# Altium integrated library Cypress PLD Ultra37000.IntLib: 166 symbols (part 2 of 12)
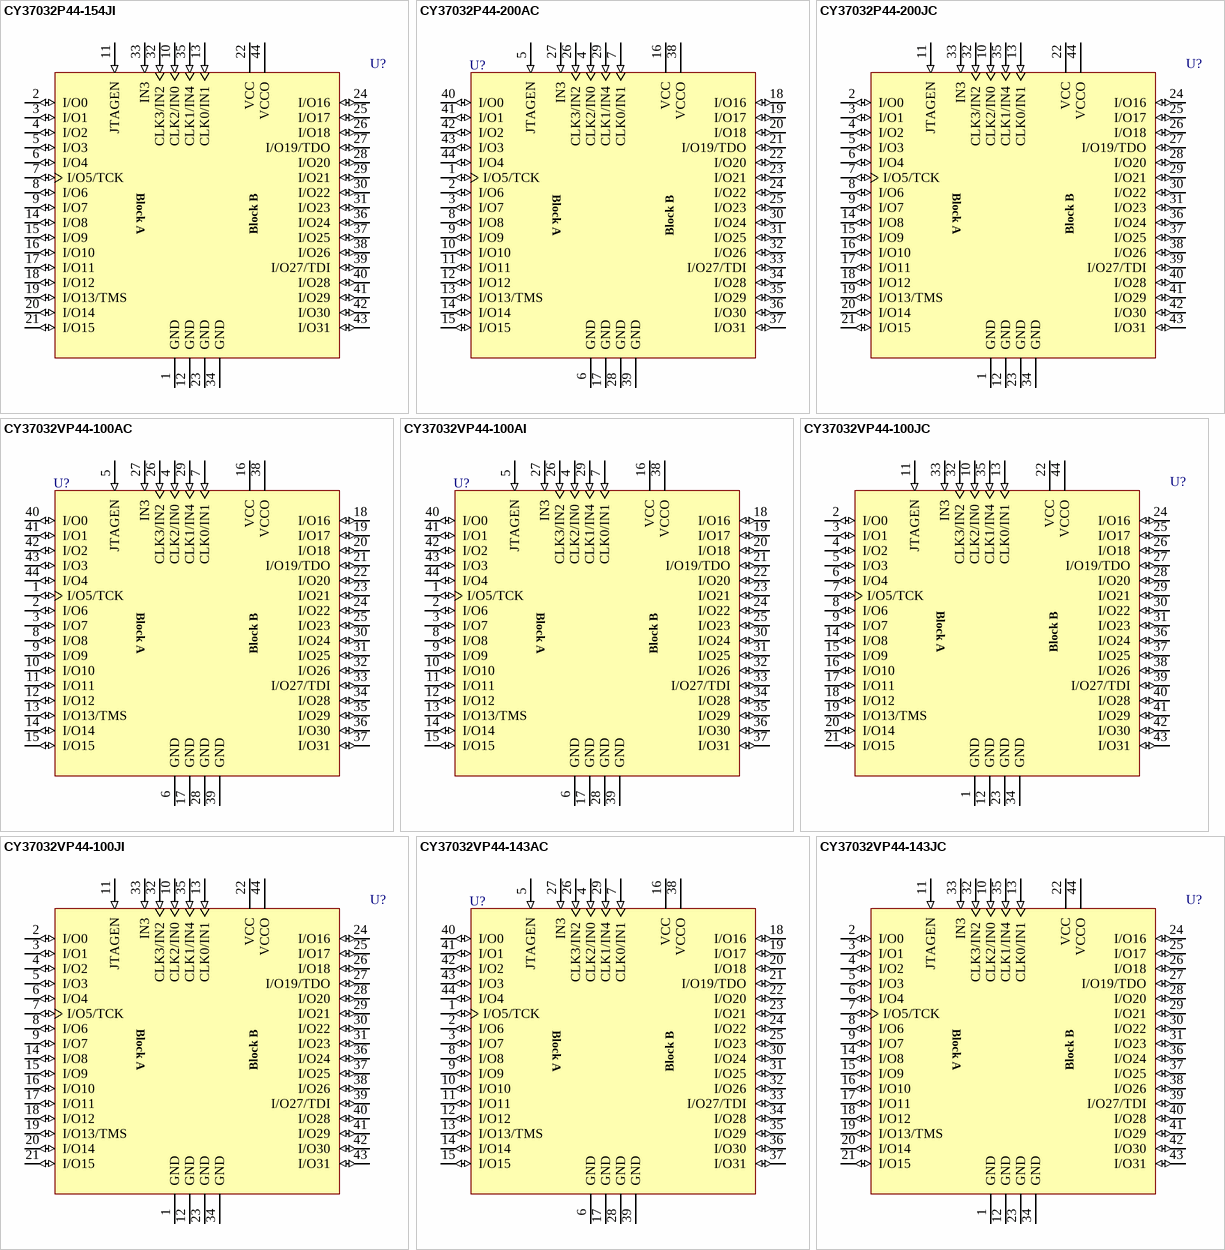
[diagram p91: symbols CY37032P44-154JI to CY37032VP44-143JC]

## CY37032P44-154JI
designator U?
Ultra37000 5V, ISR High-Performance CPLD; Published: 11-Dec-2002; LatestRevisionDate: 13-Apr-2006; LatestRevisionNote: IPC-7351 Footprint Added.; DatasheetVersion: 18-Apr-2001; PackageVersion: Mar-2001; PackageReference: J67; Publisher: Altium Limited; PackageDescription: 44-Pin Plastic Leaded Chip Carrier 1.27 mm Pitch; ComponentLink1Description: Manufacturer Link; ComponentLink1URL: http://www.cypress.com/; ComponentLink2Description: Datasheet; ComponentLink2URL: http://www.cypress.com/portal/server.pt/gateway/PTARGS_0_2_1524_209_259_43/http%3B/sjapp20.mis.cypress.com%3B7001/publishedcontent/publish/design_resources/datasheets/contents/cy37032p_5.pdf
footprint J67_N (Leaded Chip Carrier, 44-Leads, Body 16.6x16.6mm, Pitch 1.27mm, IPC Medium Density)
footprint J67_L (Leaded Chip Carrier, 44-Leads, Body 16.6x16.6mm, Pitch 1.27mm, IPC High Density)
footprint J67_M (Leaded Chip Carrier, 44-Leads, Body 16.6x16.6mm, Pitch 1.27mm, IPC Low Density)
3D model CY37032P44-J67 (44-Pin Plastic Leaded Chip Carrier 1.27 mm Pitch)
pins: 1 GND (power), 2 I/O0 (io), 3 I/O1 (io), 4 I/O2 (io), 5 I/O3 (io), 6 I/O4 (io), 7 I/O5/TCK (io), 8 I/O6 (io), 9 I/O7 (io), 10 CLK2/IN0 (in), 11 JTAGEN (in), 12 GND (power), 13 CLK0/IN1 (in), 14 I/O8 (io), 15 I/O9 (io), 16 I/O10 (io), 17 I/O11 (io), 18 I/O12 (io), 19 I/O13/TMS (io), 20 I/O14 (io), 21 I/O15 (io), 22 VCC (power), 23 GND (power), 24 I/O16 (io), 25 I/O17 (io), 26 I/O18 (io), 27 I/O19/TDO (io), 28 I/O20 (io), 29 I/O21 (io), 30 I/O22 (io), 31 I/O23 (io), 32 CLK3/IN2 (in), 33 IN3 (in), 34 GND (power), 35 CLK1/IN4 (in), 36 I/O24 (io), 37 I/O25 (io), 38 I/O26 (io), 39 I/O27/TDI (io), 40 I/O28 (io), 41 I/O29 (io), 42 I/O30 (io), 43 I/O31 (io), 44 VCCO (power)
text: Block A; Block B

## CY37032P44-200AC
designator U?
Ultra37000 5V, ISR High-Performance CPLD; Published: 11-Dec-2002; LatestRevisionDate: 13-Apr-2006; LatestRevisionNote: IPC-7351 Footprint Added.; DatasheetVersion: 18-Apr-2001; PackageVersion: Mar-2002; PackageReference: A44; Publisher: Altium Limited; PackageDescription: 44-Pin Thin Plastic Quad Flat Pack 0.8 mm Pitch; ComponentLink1Description: Manufacturer Link; ComponentLink1URL: http://www.cypress.com/; ComponentLink2Description: Datasheet; ComponentLink2URL: http://www.cypress.com/portal/server.pt/gateway/PTARGS_0_2_1524_209_259_43/http%3B/sjapp20.mis.cypress.com%3B7001/publishedcontent/publish/design_resources/datasheets/contents/cy37032p_5.pdf
footprint A44_N (Thin QFP, 44-Leads, Body 10x10mm, Pitch 0.8mm, IPC Medium Density)
footprint A44_L (Thin QFP, 44-Leads, Body 10x10mm, Pitch 0.8mm, IPC High Density)
footprint A44_M (Thin QFP, 44-Leads, Body 10x10mm, Pitch 0.8mm, IPC Low Density)
3D model CY37032P44-A44 (44-Pin Thin Plastic Quad Flat Pack 0.8 mm Pitch)
pins: 1 I/O5/TCK (io), 2 I/O6 (io), 3 I/O7 (io), 4 CLK2/IN0 (in), 5 JTAGEN (in), 6 GND (power), 7 CLK0/IN1 (in), 8 I/O8 (io), 9 I/O9 (io), 10 I/O10 (io), 11 I/O11 (io), 12 I/O12 (io), 13 I/O13/TMS (io), 14 I/O14 (io), 15 I/O15 (io), 16 VCC (power), 17 GND (power), 18 I/O16 (io), 19 I/O17 (io), 20 I/O18 (io), 21 I/O19/TDO (io), 22 I/O20 (io), 23 I/O21 (io), 24 I/O22 (io), 25 I/O23 (io), 26 CLK3/IN2 (in), 27 IN3 (in), 28 GND (power), 29 CLK1/IN4 (in), 30 I/O24 (io), 31 I/O25 (io), 32 I/O26 (io), 33 I/O27/TDI (io), 34 I/O28 (io), 35 I/O29 (io), 36 I/O30 (io), 37 I/O31 (io), 38 VCCO (power), 39 GND (power), 40 I/O0 (io), 41 I/O1 (io), 42 I/O2 (io), 43 I/O3 (io), 44 I/O4 (io)
text: Block A; Block B

## CY37032P44-200JC
designator U?
Ultra37000 5V, ISR High-Performance CPLD; Published: 11-Dec-2002; LatestRevisionDate: 13-Apr-2006; LatestRevisionNote: IPC-7351 Footprint Added.; DatasheetVersion: 18-Apr-2001; PackageVersion: Mar-2001; PackageReference: J67; Publisher: Altium Limited; PackageDescription: 44-Pin Plastic Leaded Chip Carrier 1.27 mm Pitch; ComponentLink1Description: Manufacturer Link; ComponentLink1URL: http://www.cypress.com/; ComponentLink2Description: Datasheet; ComponentLink2URL: http://www.cypress.com/portal/server.pt/gateway/PTARGS_0_2_1524_209_259_43/http%3B/sjapp20.mis.cypress.com%3B7001/publishedcontent/publish/design_resources/datasheets/contents/cy37032p_5.pdf
footprint J67_N (Leaded Chip Carrier, 44-Leads, Body 16.6x16.6mm, Pitch 1.27mm, IPC Medium Density)
footprint J67_L (Leaded Chip Carrier, 44-Leads, Body 16.6x16.6mm, Pitch 1.27mm, IPC High Density)
footprint J67_M (Leaded Chip Carrier, 44-Leads, Body 16.6x16.6mm, Pitch 1.27mm, IPC Low Density)
3D model CY37032P44-J67 (44-Pin Plastic Leaded Chip Carrier 1.27 mm Pitch)
pins: 1 GND (power), 2 I/O0 (io), 3 I/O1 (io), 4 I/O2 (io), 5 I/O3 (io), 6 I/O4 (io), 7 I/O5/TCK (io), 8 I/O6 (io), 9 I/O7 (io), 10 CLK2/IN0 (in), 11 JTAGEN (in), 12 GND (power), 13 CLK0/IN1 (in), 14 I/O8 (io), 15 I/O9 (io), 16 I/O10 (io), 17 I/O11 (io), 18 I/O12 (io), 19 I/O13/TMS (io), 20 I/O14 (io), 21 I/O15 (io), 22 VCC (power), 23 GND (power), 24 I/O16 (io), 25 I/O17 (io), 26 I/O18 (io), 27 I/O19/TDO (io), 28 I/O20 (io), 29 I/O21 (io), 30 I/O22 (io), 31 I/O23 (io), 32 CLK3/IN2 (in), 33 IN3 (in), 34 GND (power), 35 CLK1/IN4 (in), 36 I/O24 (io), 37 I/O25 (io), 38 I/O26 (io), 39 I/O27/TDI (io), 40 I/O28 (io), 41 I/O29 (io), 42 I/O30 (io), 43 I/O31 (io), 44 VCCO (power)
text: Block A; Block B

## CY37032VP44-100AC
designator U?
Ultra37000 3.3V, ISR High-Performance CPLD; Published: 11-Dec-2002; LatestRevisionDate: 13-Apr-2006; LatestRevisionNote: IPC-7351 Footprint Added.; DatasheetVersion: 18-Apr-2001; PackageVersion: Mar-2002; PackageReference: A44; Publisher: Altium Limited; PackageDescription: 44-Pin Thin Plastic Quad Flat Pack 0.8 mm Pitch; ComponentLink1Description: Manufacturer Link; ComponentLink1URL: http://www.cypress.com/; ComponentLink2Description: Datasheet; ComponentLink2URL: http://www.cypress.com/portal/server.pt/gateway/PTARGS_0_2_1524_209_259_43/http%3B/sjapp20.mis.cypress.com%3B7001/publishedcontent/publish/design_resources/datasheets/contents/cy37032p_5.pdf
footprint A44_N (Thin QFP, 44-Leads, Body 10x10mm, Pitch 0.8mm, IPC Medium Density)
footprint A44_L (Thin QFP, 44-Leads, Body 10x10mm, Pitch 0.8mm, IPC High Density)
footprint A44_M (Thin QFP, 44-Leads, Body 10x10mm, Pitch 0.8mm, IPC Low Density)
3D model CY37032VP44-A44 (44-Pin Thin Plastic Quad Flat Pack 0.8 mm Pitch)
pins: 1 I/O5/TCK (io), 2 I/O6 (io), 3 I/O7 (io), 4 CLK2/IN0 (in), 5 JTAGEN (in), 6 GND (power), 7 CLK0/IN1 (in), 8 I/O8 (io), 9 I/O9 (io), 10 I/O10 (io), 11 I/O11 (io), 12 I/O12 (io), 13 I/O13/TMS (io), 14 I/O14 (io), 15 I/O15 (io), 16 VCC (power), 17 GND (power), 18 I/O16 (io), 19 I/O17 (io), 20 I/O18 (io), 21 I/O19/TDO (io), 22 I/O20 (io), 23 I/O21 (io), 24 I/O22 (io), 25 I/O23 (io), 26 CLK3/IN2 (in), 27 IN3 (in), 28 GND (power), 29 CLK1/IN4 (in), 30 I/O24 (io), 31 I/O25 (io), 32 I/O26 (io), 33 I/O27/TDI (io), 34 I/O28 (io), 35 I/O29 (io), 36 I/O30 (io), 37 I/O31 (io), 38 VCCO (power), 39 GND (power), 40 I/O0 (io), 41 I/O1 (io), 42 I/O2 (io), 43 I/O3 (io), 44 I/O4 (io)
text: Block A; Block B

## CY37032VP44-100AI
designator U?
Ultra37000 3.3V, ISR High-Performance CPLD; Published: 11-Dec-2002; LatestRevisionDate: 13-Apr-2006; LatestRevisionNote: IPC-7351 Footprint Added.; DatasheetVersion: 18-Apr-2001; PackageVersion: Mar-2002; PackageReference: A44; Publisher: Altium Limited; PackageDescription: 44-Pin Thin Plastic Quad Flat Pack 0.8 mm Pitch; ComponentLink1Description: Manufacturer Link; ComponentLink1URL: http://www.cypress.com/; ComponentLink2Description: Datasheet; ComponentLink2URL: http://www.cypress.com/portal/server.pt/gateway/PTARGS_0_2_1524_209_259_43/http%3B/sjapp20.mis.cypress.com%3B7001/publishedcontent/publish/design_resources/datasheets/contents/cy37032p_5.pdf
footprint A44_N (Thin QFP, 44-Leads, Body 10x10mm, Pitch 0.8mm, IPC Medium Density)
footprint A44_L (Thin QFP, 44-Leads, Body 10x10mm, Pitch 0.8mm, IPC High Density)
footprint A44_M (Thin QFP, 44-Leads, Body 10x10mm, Pitch 0.8mm, IPC Low Density)
3D model CY37032VP44-A44 (44-Pin Thin Plastic Quad Flat Pack 0.8 mm Pitch)
pins: 1 I/O5/TCK (io), 2 I/O6 (io), 3 I/O7 (io), 4 CLK2/IN0 (in), 5 JTAGEN (in), 6 GND (power), 7 CLK0/IN1 (in), 8 I/O8 (io), 9 I/O9 (io), 10 I/O10 (io), 11 I/O11 (io), 12 I/O12 (io), 13 I/O13/TMS (io), 14 I/O14 (io), 15 I/O15 (io), 16 VCC (power), 17 GND (power), 18 I/O16 (io), 19 I/O17 (io), 20 I/O18 (io), 21 I/O19/TDO (io), 22 I/O20 (io), 23 I/O21 (io), 24 I/O22 (io), 25 I/O23 (io), 26 CLK3/IN2 (in), 27 IN3 (in), 28 GND (power), 29 CLK1/IN4 (in), 30 I/O24 (io), 31 I/O25 (io), 32 I/O26 (io), 33 I/O27/TDI (io), 34 I/O28 (io), 35 I/O29 (io), 36 I/O30 (io), 37 I/O31 (io), 38 VCCO (power), 39 GND (power), 40 I/O0 (io), 41 I/O1 (io), 42 I/O2 (io), 43 I/O3 (io), 44 I/O4 (io)
text: Block A; Block B

## CY37032VP44-100JC
designator U?
Ultra37000 3.3V, ISR High-Performance CPLD; ComponentAvailability: Obsolete; Published: 11-Dec-2002; LatestRevisionDate: 13-Apr-2006; LatestRevisionNote: IPC-7351 Footprint Added.; DatasheetVersion: 18-Apr-2001; PackageVersion: Mar-2001; PackageReference: J67; Publisher: Altium Limited; PackageDescription: 44-Pin Plastic Leaded Chip Carrier 1.27 mm Pitch; ComponentLink1Description: Manufacturer Link; ComponentLink1URL: http://www.cypress.com/; ComponentLink2Description: Datasheet; ComponentLink2URL: http://www.cypress.com/portal/server.pt/gateway/PTARGS_0_2_1524_209_259_43/http%3B/sjapp20.mis.cypress.com%3B7001/publishedcontent/publish/design_resources/datasheets/contents/cy37032p_5.pdf
footprint J67_N (Leaded Chip Carrier, 44-Leads, Body 16.6x16.6mm, Pitch 1.27mm, IPC Medium Density)
footprint J67_L (Leaded Chip Carrier, 44-Leads, Body 16.6x16.6mm, Pitch 1.27mm, IPC High Density)
footprint J67_M (Leaded Chip Carrier, 44-Leads, Body 16.6x16.6mm, Pitch 1.27mm, IPC Low Density)
3D model CY37032VP44-J67 (44-Pin Plastic Leaded Chip Carrier 1.27 mm Pitch)
pins: 1 GND (power), 2 I/O0 (io), 3 I/O1 (io), 4 I/O2 (io), 5 I/O3 (io), 6 I/O4 (io), 7 I/O5/TCK (io), 8 I/O6 (io), 9 I/O7 (io), 10 CLK2/IN0 (in), 11 JTAGEN (in), 12 GND (power), 13 CLK0/IN1 (in), 14 I/O8 (io), 15 I/O9 (io), 16 I/O10 (io), 17 I/O11 (io), 18 I/O12 (io), 19 I/O13/TMS (io), 20 I/O14 (io), 21 I/O15 (io), 22 VCC (power), 23 GND (power), 24 I/O16 (io), 25 I/O17 (io), 26 I/O18 (io), 27 I/O19/TDO (io), 28 I/O20 (io), 29 I/O21 (io), 30 I/O22 (io), 31 I/O23 (io), 32 CLK3/IN2 (in), 33 IN3 (in), 34 GND (power), 35 CLK1/IN4 (in), 36 I/O24 (io), 37 I/O25 (io), 38 I/O26 (io), 39 I/O27/TDI (io), 40 I/O28 (io), 41 I/O29 (io), 42 I/O30 (io), 43 I/O31 (io), 44 VCCO (power)
text: Block A; Block B

## CY37032VP44-100JI
designator U?
Ultra37000 3.3V, ISR High-Performance CPLD; ComponentAvailability: Obsolete; Published: 11-Dec-2002; LatestRevisionDate: 13-Apr-2006; LatestRevisionNote: IPC-7351 Footprint Added.; DatasheetVersion: 18-Apr-2001; PackageVersion: Mar-2001; PackageReference: J67; Publisher: Altium Limited; PackageDescription: 44-Pin Plastic Leaded Chip Carrier 1.27 mm Pitch; ComponentLink1Description: Manufacturer Link; ComponentLink1URL: http://www.cypress.com/; ComponentLink2Description: Datasheet; ComponentLink2URL: http://www.cypress.com/portal/server.pt/gateway/PTARGS_0_2_1524_209_259_43/http%3B/sjapp20.mis.cypress.com%3B7001/publishedcontent/publish/design_resources/datasheets/contents/cy37032p_5.pdf
footprint J67_N (Leaded Chip Carrier, 44-Leads, Body 16.6x16.6mm, Pitch 1.27mm, IPC Medium Density)
footprint J67_L (Leaded Chip Carrier, 44-Leads, Body 16.6x16.6mm, Pitch 1.27mm, IPC High Density)
footprint J67_M (Leaded Chip Carrier, 44-Leads, Body 16.6x16.6mm, Pitch 1.27mm, IPC Low Density)
3D model CY37032VP44-J67 (44-Pin Plastic Leaded Chip Carrier 1.27 mm Pitch)
pins: 1 GND (power), 2 I/O0 (io), 3 I/O1 (io), 4 I/O2 (io), 5 I/O3 (io), 6 I/O4 (io), 7 I/O5/TCK (io), 8 I/O6 (io), 9 I/O7 (io), 10 CLK2/IN0 (in), 11 JTAGEN (in), 12 GND (power), 13 CLK0/IN1 (in), 14 I/O8 (io), 15 I/O9 (io), 16 I/O10 (io), 17 I/O11 (io), 18 I/O12 (io), 19 I/O13/TMS (io), 20 I/O14 (io), 21 I/O15 (io), 22 VCC (power), 23 GND (power), 24 I/O16 (io), 25 I/O17 (io), 26 I/O18 (io), 27 I/O19/TDO (io), 28 I/O20 (io), 29 I/O21 (io), 30 I/O22 (io), 31 I/O23 (io), 32 CLK3/IN2 (in), 33 IN3 (in), 34 GND (power), 35 CLK1/IN4 (in), 36 I/O24 (io), 37 I/O25 (io), 38 I/O26 (io), 39 I/O27/TDI (io), 40 I/O28 (io), 41 I/O29 (io), 42 I/O30 (io), 43 I/O31 (io), 44 VCCO (power)
text: Block A; Block B

## CY37032VP44-143AC
designator U?
Ultra37000 3.3V, ISR High-Performance CPLD; Published: 11-Dec-2002; LatestRevisionDate: 13-Apr-2006; LatestRevisionNote: IPC-7351 Footprint Added.; DatasheetVersion: 18-Apr-2001; PackageVersion: Mar-2002; PackageReference: A44; Publisher: Altium Limited; PackageDescription: 44-Pin Thin Plastic Quad Flat Pack 0.8 mm Pitch; ComponentLink1Description: Manufacturer Link; ComponentLink1URL: http://www.cypress.com/; ComponentLink2Description: Datasheet; ComponentLink2URL: http://www.cypress.com/portal/server.pt/gateway/PTARGS_0_2_1524_209_259_43/http%3B/sjapp20.mis.cypress.com%3B7001/publishedcontent/publish/design_resources/datasheets/contents/cy37032p_5.pdf
footprint A44_N (Thin QFP, 44-Leads, Body 10x10mm, Pitch 0.8mm, IPC Medium Density)
footprint A44_L (Thin QFP, 44-Leads, Body 10x10mm, Pitch 0.8mm, IPC High Density)
footprint A44_M (Thin QFP, 44-Leads, Body 10x10mm, Pitch 0.8mm, IPC Low Density)
3D model CY37032VP44-A44 (44-Pin Thin Plastic Quad Flat Pack 0.8 mm Pitch)
pins: 1 I/O5/TCK (io), 2 I/O6 (io), 3 I/O7 (io), 4 CLK2/IN0 (in), 5 JTAGEN (in), 6 GND (power), 7 CLK0/IN1 (in), 8 I/O8 (io), 9 I/O9 (io), 10 I/O10 (io), 11 I/O11 (io), 12 I/O12 (io), 13 I/O13/TMS (io), 14 I/O14 (io), 15 I/O15 (io), 16 VCC (power), 17 GND (power), 18 I/O16 (io), 19 I/O17 (io), 20 I/O18 (io), 21 I/O19/TDO (io), 22 I/O20 (io), 23 I/O21 (io), 24 I/O22 (io), 25 I/O23 (io), 26 CLK3/IN2 (in), 27 IN3 (in), 28 GND (power), 29 CLK1/IN4 (in), 30 I/O24 (io), 31 I/O25 (io), 32 I/O26 (io), 33 I/O27/TDI (io), 34 I/O28 (io), 35 I/O29 (io), 36 I/O30 (io), 37 I/O31 (io), 38 VCCO (power), 39 GND (power), 40 I/O0 (io), 41 I/O1 (io), 42 I/O2 (io), 43 I/O3 (io), 44 I/O4 (io)
text: Block A; Block B

## CY37032VP44-143JC
designator U?
Ultra37000 3.3V, ISR High-Performance CPLD; ComponentAvailability: Obsolete; Published: 11-Dec-2002; LatestRevisionDate: 13-Apr-2006; LatestRevisionNote: IPC-7351 Footprint Added.; DatasheetVersion: 18-Apr-2001; PackageVersion: Mar-2001; PackageReference: J67; Publisher: Altium Limited; PackageDescription: 44-Pin Plastic Leaded Chip Carrier 1.27 mm Pitch; ComponentLink1Description: Manufacturer Link; ComponentLink1URL: http://www.cypress.com/; ComponentLink2Description: Datasheet; ComponentLink2URL: http://www.cypress.com/portal/server.pt/gateway/PTARGS_0_2_1524_209_259_43/http%3B/sjapp20.mis.cypress.com%3B7001/publishedcontent/publish/design_resources/datasheets/contents/cy37032p_5.pdf
footprint J67_N (Leaded Chip Carrier, 44-Leads, Body 16.6x16.6mm, Pitch 1.27mm, IPC Medium Density)
footprint J67_L (Leaded Chip Carrier, 44-Leads, Body 16.6x16.6mm, Pitch 1.27mm, IPC High Density)
footprint J67_M (Leaded Chip Carrier, 44-Leads, Body 16.6x16.6mm, Pitch 1.27mm, IPC Low Density)
3D model CY37032VP44-J67 (44-Pin Plastic Leaded Chip Carrier 1.27 mm Pitch)
pins: 1 GND (power), 2 I/O0 (io), 3 I/O1 (io), 4 I/O2 (io), 5 I/O3 (io), 6 I/O4 (io), 7 I/O5/TCK (io), 8 I/O6 (io), 9 I/O7 (io), 10 CLK2/IN0 (in), 11 JTAGEN (in), 12 GND (power), 13 CLK0/IN1 (in), 14 I/O8 (io), 15 I/O9 (io), 16 I/O10 (io), 17 I/O11 (io), 18 I/O12 (io), 19 I/O13/TMS (io), 20 I/O14 (io), 21 I/O15 (io), 22 VCC (power), 23 GND (power), 24 I/O16 (io), 25 I/O17 (io), 26 I/O18 (io), 27 I/O19/TDO (io), 28 I/O20 (io), 29 I/O21 (io), 30 I/O22 (io), 31 I/O23 (io), 32 CLK3/IN2 (in), 33 IN3 (in), 34 GND (power), 35 CLK1/IN4 (in), 36 I/O24 (io), 37 I/O25 (io), 38 I/O26 (io), 39 I/O27/TDI (io), 40 I/O28 (io), 41 I/O29 (io), 42 I/O30 (io), 43 I/O31 (io), 44 VCCO (power)
text: Block A; Block B

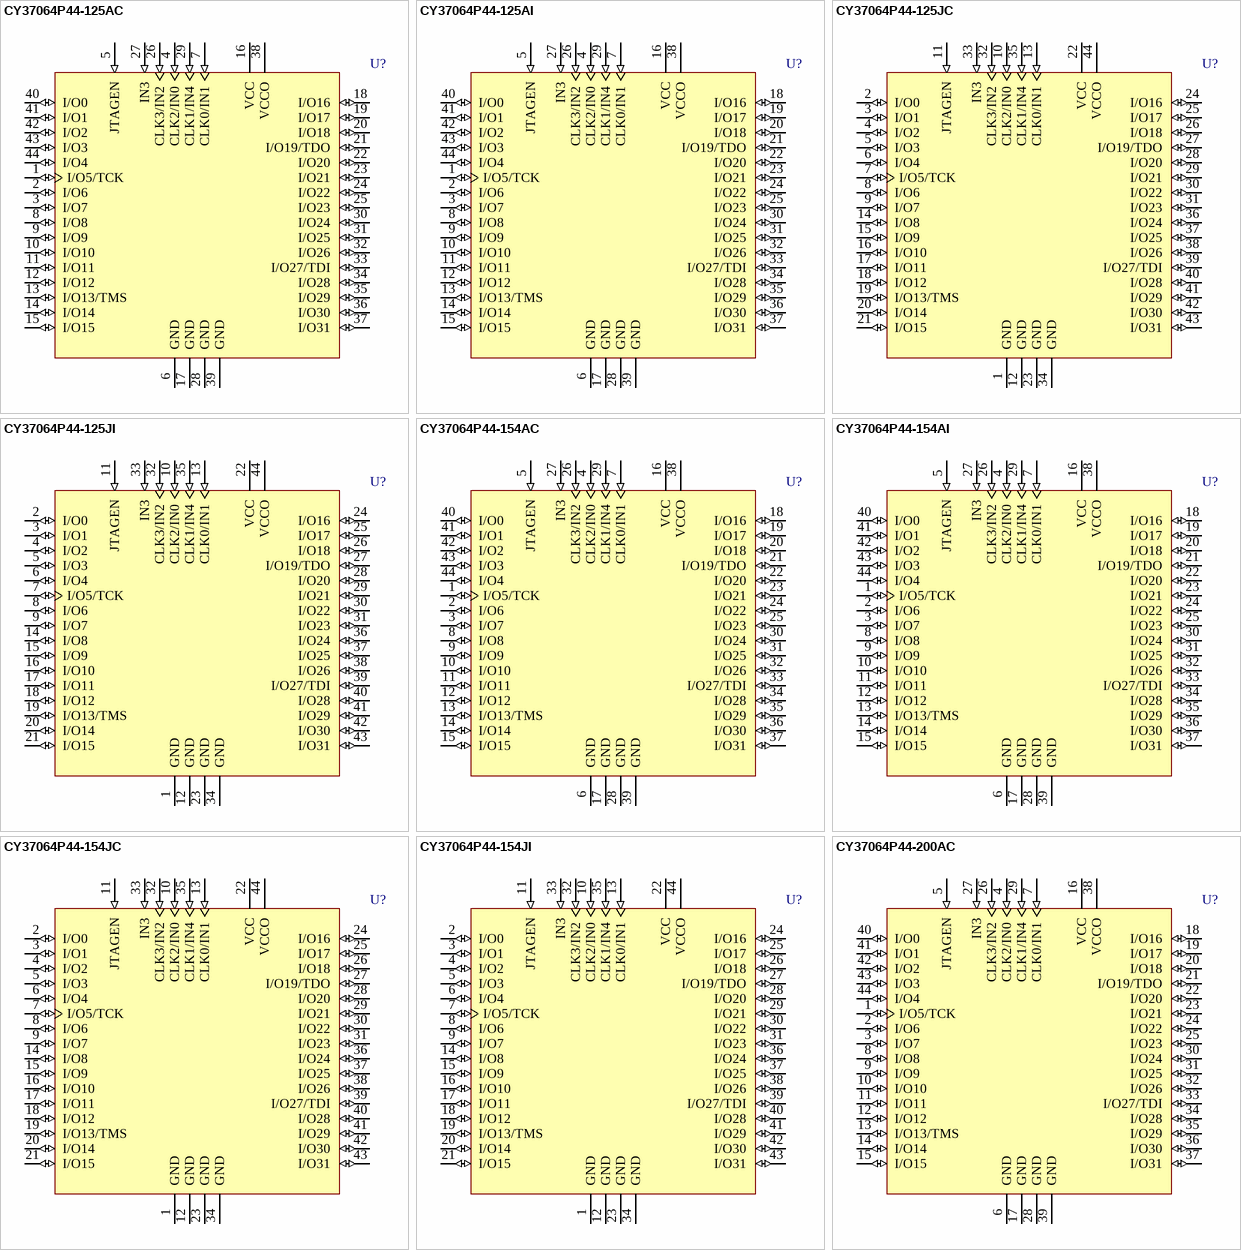
[diagram p7: symbols CY37064P44-125AC to CY37064P44-200AC]

## CY37064P44-125AC
designator U?
Ultra37000 5V, ISR High-Performance CPLD; Published: 11-Dec-2002; LatestRevisionDate: 13-Apr-2006; LatestRevisionNote: IPC-7351 Footprint Added.; DatasheetVersion: 18-Apr-2001; PackageVersion: Mar-2002; PackageReference: A44; Publisher: Altium Limited; PackageDescription: 44-Pin Thin Plastic Quad Flat Pack 0.8 mm Pitch; ComponentLink1Description: Manufacturer Link; ComponentLink1URL: http://www.cypress.com/; ComponentLink2Description: Datasheet; ComponentLink2URL: http://www.cypress.com/portal/server.pt/gateway/PTARGS_0_2_1524_209_259_43/http%3B/sjapp20.mis.cypress.com%3B7001/publishedcontent/publish/design_resources/datasheets/contents/cy37032p_5.pdf
footprint A44_N (Thin QFP, 44-Leads, Body 10x10mm, Pitch 0.8mm, IPC Medium Density)
footprint A44_L (Thin QFP, 44-Leads, Body 10x10mm, Pitch 0.8mm, IPC High Density)
footprint A44_M (Thin QFP, 44-Leads, Body 10x10mm, Pitch 0.8mm, IPC Low Density)
3D model CY37064P44-A44 (44-Pin Thin Plastic Quad Flat Pack 0.8 mm Pitch)
pins: 1 I/O5/TCK (io), 2 I/O6 (io), 3 I/O7 (io), 4 CLK2/IN0 (in), 5 JTAGEN (in), 6 GND (power), 7 CLK0/IN1 (in), 8 I/O8 (io), 9 I/O9 (io), 10 I/O10 (io), 11 I/O11 (io), 12 I/O12 (io), 13 I/O13/TMS (io), 14 I/O14 (io), 15 I/O15 (io), 16 VCC (power), 17 GND (power), 18 I/O16 (io), 19 I/O17 (io), 20 I/O18 (io), 21 I/O19/TDO (io), 22 I/O20 (io), 23 I/O21 (io), 24 I/O22 (io), 25 I/O23 (io), 26 CLK3/IN2 (in), 27 IN3 (in), 28 GND (power), 29 CLK1/IN4 (in), 30 I/O24 (io), 31 I/O25 (io), 32 I/O26 (io), 33 I/O27/TDI (io), 34 I/O28 (io), 35 I/O29 (io), 36 I/O30 (io), 37 I/O31 (io), 38 VCCO (power), 39 GND (power), 40 I/O0 (io), 41 I/O1 (io), 42 I/O2 (io), 43 I/O3 (io), 44 I/O4 (io)

## CY37064P44-125AI
designator U?
Ultra37000 5V, ISR High-Performance CPLD; Published: 11-Dec-2002; LatestRevisionDate: 13-Apr-2006; LatestRevisionNote: IPC-7351 Footprint Added.; DatasheetVersion: 18-Apr-2001; PackageVersion: Mar-2002; PackageReference: A44; Publisher: Altium Limited; PackageDescription: 44-Pin Thin Plastic Quad Flat Pack 0.8 mm Pitch; ComponentLink1Description: Manufacturer Link; ComponentLink1URL: http://www.cypress.com/; ComponentLink2Description: Datasheet; ComponentLink2URL: http://www.cypress.com/portal/server.pt/gateway/PTARGS_0_2_1524_209_259_43/http%3B/sjapp20.mis.cypress.com%3B7001/publishedcontent/publish/design_resources/datasheets/contents/cy37032p_5.pdf
footprint A44_N (Thin QFP, 44-Leads, Body 10x10mm, Pitch 0.8mm, IPC Medium Density)
footprint A44_L (Thin QFP, 44-Leads, Body 10x10mm, Pitch 0.8mm, IPC High Density)
footprint A44_M (Thin QFP, 44-Leads, Body 10x10mm, Pitch 0.8mm, IPC Low Density)
3D model CY37064P44-A44 (44-Pin Thin Plastic Quad Flat Pack 0.8 mm Pitch)
pins: 1 I/O5/TCK (io), 2 I/O6 (io), 3 I/O7 (io), 4 CLK2/IN0 (in), 5 JTAGEN (in), 6 GND (power), 7 CLK0/IN1 (in), 8 I/O8 (io), 9 I/O9 (io), 10 I/O10 (io), 11 I/O11 (io), 12 I/O12 (io), 13 I/O13/TMS (io), 14 I/O14 (io), 15 I/O15 (io), 16 VCC (power), 17 GND (power), 18 I/O16 (io), 19 I/O17 (io), 20 I/O18 (io), 21 I/O19/TDO (io), 22 I/O20 (io), 23 I/O21 (io), 24 I/O22 (io), 25 I/O23 (io), 26 CLK3/IN2 (in), 27 IN3 (in), 28 GND (power), 29 CLK1/IN4 (in), 30 I/O24 (io), 31 I/O25 (io), 32 I/O26 (io), 33 I/O27/TDI (io), 34 I/O28 (io), 35 I/O29 (io), 36 I/O30 (io), 37 I/O31 (io), 38 VCCO (power), 39 GND (power), 40 I/O0 (io), 41 I/O1 (io), 42 I/O2 (io), 43 I/O3 (io), 44 I/O4 (io)

## CY37064P44-125JC
designator U?
Ultra37000 5V, ISR High-Performance CPLD; Published: 11-Dec-2002; LatestRevisionDate: 13-Apr-2006; LatestRevisionNote: IPC-7351 Footprint Added.; DatasheetVersion: 18-Apr-2001; PackageVersion: Mar-2001; PackageReference: J67; Publisher: Altium Limited; PackageDescription: 44-Pin Plastic Leaded Chip Carrier 1.27 mm Pitch; ComponentLink1Description: Manufacturer Link; ComponentLink1URL: http://www.cypress.com/; ComponentLink2Description: Datasheet; ComponentLink2URL: http://www.cypress.com/portal/server.pt/gateway/PTARGS_0_2_1524_209_259_43/http%3B/sjapp20.mis.cypress.com%3B7001/publishedcontent/publish/design_resources/datasheets/contents/cy37032p_5.pdf
footprint J67_N (Leaded Chip Carrier, 44-Leads, Body 16.6x16.6mm, Pitch 1.27mm, IPC Medium Density)
footprint J67_L (Leaded Chip Carrier, 44-Leads, Body 16.6x16.6mm, Pitch 1.27mm, IPC High Density)
footprint J67_M (Leaded Chip Carrier, 44-Leads, Body 16.6x16.6mm, Pitch 1.27mm, IPC Low Density)
3D model CY37064P44-J67 (44-Pin Plastic Leaded Chip Carrier 1.27 mm Pitch)
pins: 1 GND (power), 2 I/O0 (io), 3 I/O1 (io), 4 I/O2 (io), 5 I/O3 (io), 6 I/O4 (io), 7 I/O5/TCK (io), 8 I/O6 (io), 9 I/O7 (io), 10 CLK2/IN0 (in), 11 JTAGEN (in), 12 GND (power), 13 CLK0/IN1 (in), 14 I/O8 (io), 15 I/O9 (io), 16 I/O10 (io), 17 I/O11 (io), 18 I/O12 (io), 19 I/O13/TMS (io), 20 I/O14 (io), 21 I/O15 (io), 22 VCC (power), 23 GND (power), 24 I/O16 (io), 25 I/O17 (io), 26 I/O18 (io), 27 I/O19/TDO (io), 28 I/O20 (io), 29 I/O21 (io), 30 I/O22 (io), 31 I/O23 (io), 32 CLK3/IN2 (in), 33 IN3 (in), 34 GND (power), 35 CLK1/IN4 (in), 36 I/O24 (io), 37 I/O25 (io), 38 I/O26 (io), 39 I/O27/TDI (io), 40 I/O28 (io), 41 I/O29 (io), 42 I/O30 (io), 43 I/O31 (io), 44 VCCO (power)

## CY37064P44-125JI
designator U?
Ultra37000 5V, ISR High-Performance CPLD; Published: 11-Dec-2002; LatestRevisionDate: 13-Apr-2006; LatestRevisionNote: IPC-7351 Footprint Added.; DatasheetVersion: 18-Apr-2001; PackageVersion: Mar-2001; PackageReference: J67; Publisher: Altium Limited; PackageDescription: 44-Pin Plastic Leaded Chip Carrier 1.27 mm Pitch; ComponentLink1Description: Manufacturer Link; ComponentLink1URL: http://www.cypress.com/; ComponentLink2Description: Datasheet; ComponentLink2URL: http://www.cypress.com/portal/server.pt/gateway/PTARGS_0_2_1524_209_259_43/http%3B/sjapp20.mis.cypress.com%3B7001/publishedcontent/publish/design_resources/datasheets/contents/cy37032p_5.pdf
footprint J67_N (Leaded Chip Carrier, 44-Leads, Body 16.6x16.6mm, Pitch 1.27mm, IPC Medium Density)
footprint J67_L (Leaded Chip Carrier, 44-Leads, Body 16.6x16.6mm, Pitch 1.27mm, IPC High Density)
footprint J67_M (Leaded Chip Carrier, 44-Leads, Body 16.6x16.6mm, Pitch 1.27mm, IPC Low Density)
3D model CY37064P44-J67 (44-Pin Plastic Leaded Chip Carrier 1.27 mm Pitch)
pins: 1 GND (power), 2 I/O0 (io), 3 I/O1 (io), 4 I/O2 (io), 5 I/O3 (io), 6 I/O4 (io), 7 I/O5/TCK (io), 8 I/O6 (io), 9 I/O7 (io), 10 CLK2/IN0 (in), 11 JTAGEN (in), 12 GND (power), 13 CLK0/IN1 (in), 14 I/O8 (io), 15 I/O9 (io), 16 I/O10 (io), 17 I/O11 (io), 18 I/O12 (io), 19 I/O13/TMS (io), 20 I/O14 (io), 21 I/O15 (io), 22 VCC (power), 23 GND (power), 24 I/O16 (io), 25 I/O17 (io), 26 I/O18 (io), 27 I/O19/TDO (io), 28 I/O20 (io), 29 I/O21 (io), 30 I/O22 (io), 31 I/O23 (io), 32 CLK3/IN2 (in), 33 IN3 (in), 34 GND (power), 35 CLK1/IN4 (in), 36 I/O24 (io), 37 I/O25 (io), 38 I/O26 (io), 39 I/O27/TDI (io), 40 I/O28 (io), 41 I/O29 (io), 42 I/O30 (io), 43 I/O31 (io), 44 VCCO (power)

## CY37064P44-154AC
designator U?
Ultra37000 5V, ISR High-Performance CPLD; Published: 11-Dec-2002; LatestRevisionDate: 13-Apr-2006; LatestRevisionNote: IPC-7351 Footprint Added.; DatasheetVersion: 18-Apr-2001; PackageVersion: Mar-2002; PackageReference: A44; Publisher: Altium Limited; PackageDescription: 44-Pin Thin Plastic Quad Flat Pack 0.8 mm Pitch; ComponentLink1Description: Manufacturer Link; ComponentLink1URL: http://www.cypress.com/; ComponentLink2Description: Datasheet; ComponentLink2URL: http://www.cypress.com/portal/server.pt/gateway/PTARGS_0_2_1524_209_259_43/http%3B/sjapp20.mis.cypress.com%3B7001/publishedcontent/publish/design_resources/datasheets/contents/cy37032p_5.pdf
footprint A44_N (Thin QFP, 44-Leads, Body 10x10mm, Pitch 0.8mm, IPC Medium Density)
footprint A44_L (Thin QFP, 44-Leads, Body 10x10mm, Pitch 0.8mm, IPC High Density)
footprint A44_M (Thin QFP, 44-Leads, Body 10x10mm, Pitch 0.8mm, IPC Low Density)
3D model CY37064P44-A44 (44-Pin Thin Plastic Quad Flat Pack 0.8 mm Pitch)
pins: 1 I/O5/TCK (io), 2 I/O6 (io), 3 I/O7 (io), 4 CLK2/IN0 (in), 5 JTAGEN (in), 6 GND (power), 7 CLK0/IN1 (in), 8 I/O8 (io), 9 I/O9 (io), 10 I/O10 (io), 11 I/O11 (io), 12 I/O12 (io), 13 I/O13/TMS (io), 14 I/O14 (io), 15 I/O15 (io), 16 VCC (power), 17 GND (power), 18 I/O16 (io), 19 I/O17 (io), 20 I/O18 (io), 21 I/O19/TDO (io), 22 I/O20 (io), 23 I/O21 (io), 24 I/O22 (io), 25 I/O23 (io), 26 CLK3/IN2 (in), 27 IN3 (in), 28 GND (power), 29 CLK1/IN4 (in), 30 I/O24 (io), 31 I/O25 (io), 32 I/O26 (io), 33 I/O27/TDI (io), 34 I/O28 (io), 35 I/O29 (io), 36 I/O30 (io), 37 I/O31 (io), 38 VCCO (power), 39 GND (power), 40 I/O0 (io), 41 I/O1 (io), 42 I/O2 (io), 43 I/O3 (io), 44 I/O4 (io)

## CY37064P44-154AI
designator U?
Ultra37000 5V, ISR High-Performance CPLD; Published: 11-Dec-2002; LatestRevisionDate: 13-Apr-2006; LatestRevisionNote: IPC-7351 Footprint Added.; DatasheetVersion: 18-Apr-2001; PackageVersion: Mar-2002; PackageReference: A44; Publisher: Altium Limited; PackageDescription: 44-Pin Thin Plastic Quad Flat Pack 0.8 mm Pitch; ComponentLink1Description: Manufacturer Link; ComponentLink1URL: http://www.cypress.com/; ComponentLink2Description: Datasheet; ComponentLink2URL: http://www.cypress.com/portal/server.pt/gateway/PTARGS_0_2_1524_209_259_43/http%3B/sjapp20.mis.cypress.com%3B7001/publishedcontent/publish/design_resources/datasheets/contents/cy37032p_5.pdf
footprint A44_N (Thin QFP, 44-Leads, Body 10x10mm, Pitch 0.8mm, IPC Medium Density)
footprint A44_L (Thin QFP, 44-Leads, Body 10x10mm, Pitch 0.8mm, IPC High Density)
footprint A44_M (Thin QFP, 44-Leads, Body 10x10mm, Pitch 0.8mm, IPC Low Density)
3D model CY37064P44-A44 (44-Pin Thin Plastic Quad Flat Pack 0.8 mm Pitch)
pins: 1 I/O5/TCK (io), 2 I/O6 (io), 3 I/O7 (io), 4 CLK2/IN0 (in), 5 JTAGEN (in), 6 GND (power), 7 CLK0/IN1 (in), 8 I/O8 (io), 9 I/O9 (io), 10 I/O10 (io), 11 I/O11 (io), 12 I/O12 (io), 13 I/O13/TMS (io), 14 I/O14 (io), 15 I/O15 (io), 16 VCC (power), 17 GND (power), 18 I/O16 (io), 19 I/O17 (io), 20 I/O18 (io), 21 I/O19/TDO (io), 22 I/O20 (io), 23 I/O21 (io), 24 I/O22 (io), 25 I/O23 (io), 26 CLK3/IN2 (in), 27 IN3 (in), 28 GND (power), 29 CLK1/IN4 (in), 30 I/O24 (io), 31 I/O25 (io), 32 I/O26 (io), 33 I/O27/TDI (io), 34 I/O28 (io), 35 I/O29 (io), 36 I/O30 (io), 37 I/O31 (io), 38 VCCO (power), 39 GND (power), 40 I/O0 (io), 41 I/O1 (io), 42 I/O2 (io), 43 I/O3 (io), 44 I/O4 (io)

## CY37064P44-154JC
designator U?
Ultra37000 5V, ISR High-Performance CPLD; Published: 11-Dec-2002; LatestRevisionDate: 13-Apr-2006; LatestRevisionNote: IPC-7351 Footprint Added.; DatasheetVersion: 18-Apr-2001; PackageVersion: Mar-2001; PackageReference: J67; Publisher: Altium Limited; PackageDescription: 44-Pin Plastic Leaded Chip Carrier 1.27 mm Pitch; ComponentLink1Description: Manufacturer Link; ComponentLink1URL: http://www.cypress.com/; ComponentLink2Description: Datasheet; ComponentLink2URL: http://www.cypress.com/portal/server.pt/gateway/PTARGS_0_2_1524_209_259_43/http%3B/sjapp20.mis.cypress.com%3B7001/publishedcontent/publish/design_resources/datasheets/contents/cy37032p_5.pdf
footprint J67_N (Leaded Chip Carrier, 44-Leads, Body 16.6x16.6mm, Pitch 1.27mm, IPC Medium Density)
footprint J67_L (Leaded Chip Carrier, 44-Leads, Body 16.6x16.6mm, Pitch 1.27mm, IPC High Density)
footprint J67_M (Leaded Chip Carrier, 44-Leads, Body 16.6x16.6mm, Pitch 1.27mm, IPC Low Density)
3D model CY37064P44-J67 (44-Pin Plastic Leaded Chip Carrier 1.27 mm Pitch)
pins: 1 GND (power), 2 I/O0 (io), 3 I/O1 (io), 4 I/O2 (io), 5 I/O3 (io), 6 I/O4 (io), 7 I/O5/TCK (io), 8 I/O6 (io), 9 I/O7 (io), 10 CLK2/IN0 (in), 11 JTAGEN (in), 12 GND (power), 13 CLK0/IN1 (in), 14 I/O8 (io), 15 I/O9 (io), 16 I/O10 (io), 17 I/O11 (io), 18 I/O12 (io), 19 I/O13/TMS (io), 20 I/O14 (io), 21 I/O15 (io), 22 VCC (power), 23 GND (power), 24 I/O16 (io), 25 I/O17 (io), 26 I/O18 (io), 27 I/O19/TDO (io), 28 I/O20 (io), 29 I/O21 (io), 30 I/O22 (io), 31 I/O23 (io), 32 CLK3/IN2 (in), 33 IN3 (in), 34 GND (power), 35 CLK1/IN4 (in), 36 I/O24 (io), 37 I/O25 (io), 38 I/O26 (io), 39 I/O27/TDI (io), 40 I/O28 (io), 41 I/O29 (io), 42 I/O30 (io), 43 I/O31 (io), 44 VCCO (power)

## CY37064P44-154JI
designator U?
Ultra37000 5V, ISR High-Performance CPLD; Published: 11-Dec-2002; LatestRevisionDate: 13-Apr-2006; LatestRevisionNote: IPC-7351 Footprint Added.; DatasheetVersion: 18-Apr-2001; PackageVersion: Mar-2001; PackageReference: J67; Publisher: Altium Limited; PackageDescription: 44-Pin Plastic Leaded Chip Carrier 1.27 mm Pitch; ComponentLink1Description: Manufacturer Link; ComponentLink1URL: http://www.cypress.com/; ComponentLink2Description: Datasheet; ComponentLink2URL: http://www.cypress.com/portal/server.pt/gateway/PTARGS_0_2_1524_209_259_43/http%3B/sjapp20.mis.cypress.com%3B7001/publishedcontent/publish/design_resources/datasheets/contents/cy37032p_5.pdf
footprint J67_N (Leaded Chip Carrier, 44-Leads, Body 16.6x16.6mm, Pitch 1.27mm, IPC Medium Density)
footprint J67_L (Leaded Chip Carrier, 44-Leads, Body 16.6x16.6mm, Pitch 1.27mm, IPC High Density)
footprint J67_M (Leaded Chip Carrier, 44-Leads, Body 16.6x16.6mm, Pitch 1.27mm, IPC Low Density)
3D model CY37064P44-J67 (44-Pin Plastic Leaded Chip Carrier 1.27 mm Pitch)
pins: 1 GND (power), 2 I/O0 (io), 3 I/O1 (io), 4 I/O2 (io), 5 I/O3 (io), 6 I/O4 (io), 7 I/O5/TCK (io), 8 I/O6 (io), 9 I/O7 (io), 10 CLK2/IN0 (in), 11 JTAGEN (in), 12 GND (power), 13 CLK0/IN1 (in), 14 I/O8 (io), 15 I/O9 (io), 16 I/O10 (io), 17 I/O11 (io), 18 I/O12 (io), 19 I/O13/TMS (io), 20 I/O14 (io), 21 I/O15 (io), 22 VCC (power), 23 GND (power), 24 I/O16 (io), 25 I/O17 (io), 26 I/O18 (io), 27 I/O19/TDO (io), 28 I/O20 (io), 29 I/O21 (io), 30 I/O22 (io), 31 I/O23 (io), 32 CLK3/IN2 (in), 33 IN3 (in), 34 GND (power), 35 CLK1/IN4 (in), 36 I/O24 (io), 37 I/O25 (io), 38 I/O26 (io), 39 I/O27/TDI (io), 40 I/O28 (io), 41 I/O29 (io), 42 I/O30 (io), 43 I/O31 (io), 44 VCCO (power)

## CY37064P44-200AC
designator U?
Ultra37000 5V, ISR High-Performance CPLD; Published: 11-Dec-2002; LatestRevisionDate: 13-Apr-2006; LatestRevisionNote: IPC-7351 Footprint Added.; DatasheetVersion: 18-Apr-2001; PackageVersion: Mar-2002; PackageReference: A44; Publisher: Altium Limited; PackageDescription: 44-Pin Thin Plastic Quad Flat Pack 0.8 mm Pitch; ComponentLink1Description: Manufacturer Link; ComponentLink1URL: http://www.cypress.com/; ComponentLink2Description: Datasheet; ComponentLink2URL: http://www.cypress.com/portal/server.pt/gateway/PTARGS_0_2_1524_209_259_43/http%3B/sjapp20.mis.cypress.com%3B7001/publishedcontent/publish/design_resources/datasheets/contents/cy37032p_5.pdf
footprint A44_N (Thin QFP, 44-Leads, Body 10x10mm, Pitch 0.8mm, IPC Medium Density)
footprint A44_L (Thin QFP, 44-Leads, Body 10x10mm, Pitch 0.8mm, IPC High Density)
footprint A44_M (Thin QFP, 44-Leads, Body 10x10mm, Pitch 0.8mm, IPC Low Density)
3D model CY37064P44-A44 (44-Pin Thin Plastic Quad Flat Pack 0.8 mm Pitch)
pins: 1 I/O5/TCK (io), 2 I/O6 (io), 3 I/O7 (io), 4 CLK2/IN0 (in), 5 JTAGEN (in), 6 GND (power), 7 CLK0/IN1 (in), 8 I/O8 (io), 9 I/O9 (io), 10 I/O10 (io), 11 I/O11 (io), 12 I/O12 (io), 13 I/O13/TMS (io), 14 I/O14 (io), 15 I/O15 (io), 16 VCC (power), 17 GND (power), 18 I/O16 (io), 19 I/O17 (io), 20 I/O18 (io), 21 I/O19/TDO (io), 22 I/O20 (io), 23 I/O21 (io), 24 I/O22 (io), 25 I/O23 (io), 26 CLK3/IN2 (in), 27 IN3 (in), 28 GND (power), 29 CLK1/IN4 (in), 30 I/O24 (io), 31 I/O25 (io), 32 I/O26 (io), 33 I/O27/TDI (io), 34 I/O28 (io), 35 I/O29 (io), 36 I/O30 (io), 37 I/O31 (io), 38 VCCO (power), 39 GND (power), 40 I/O0 (io), 41 I/O1 (io), 42 I/O2 (io), 43 I/O3 (io), 44 I/O4 (io)

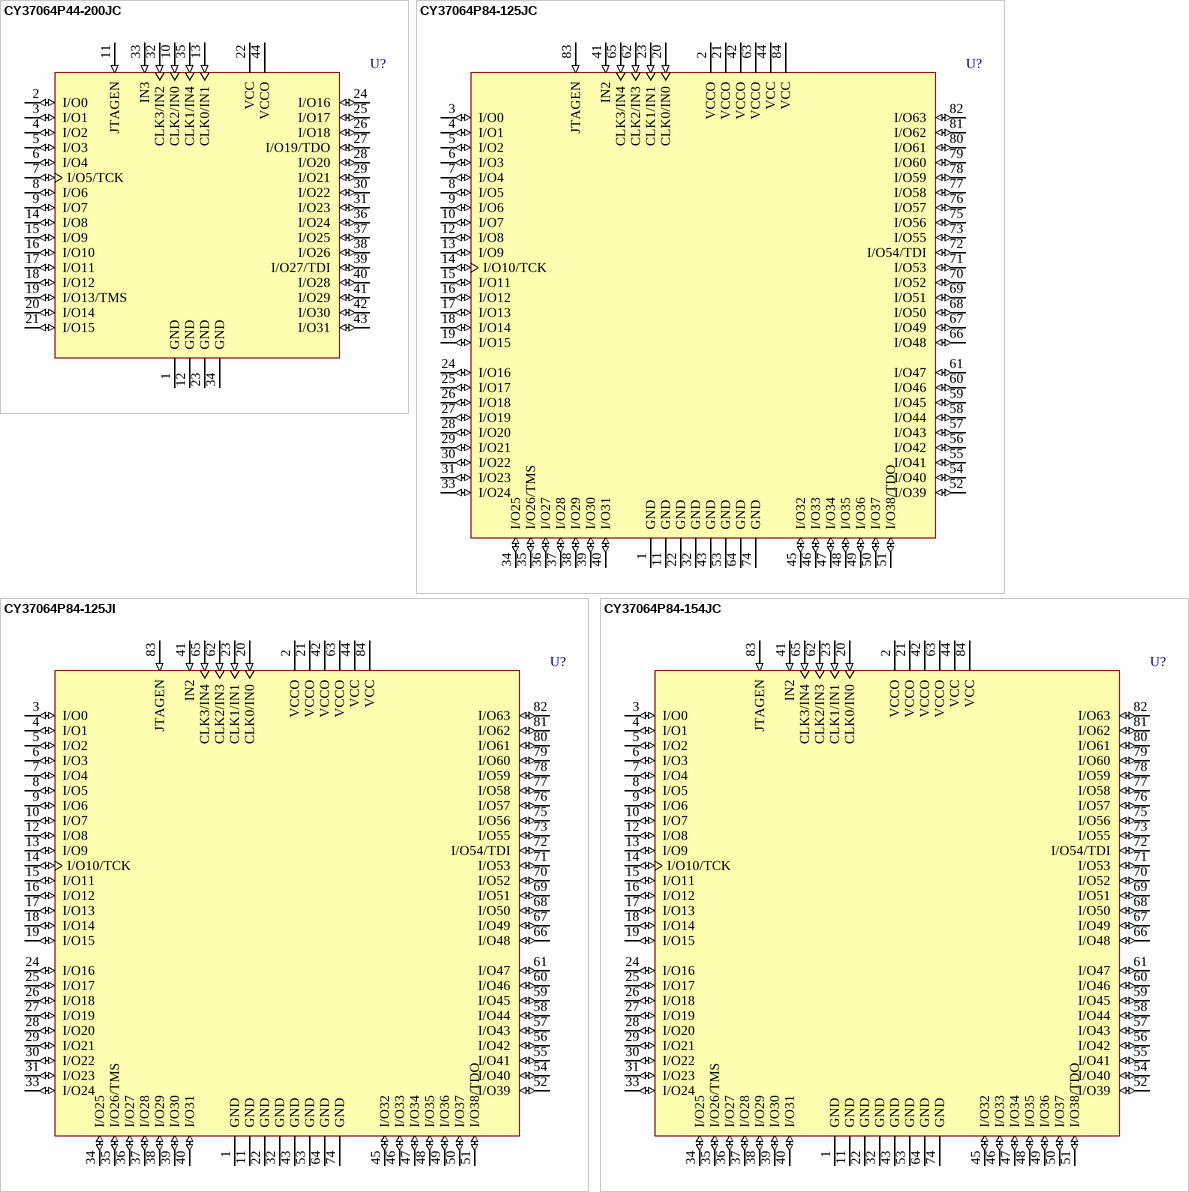
[diagram p8: symbols CY37064P44-200JC to CY37064P84-154JC]

## CY37064P44-200JC
designator U?
Ultra37000 5V, ISR High-Performance CPLD; Published: 11-Dec-2002; LatestRevisionDate: 13-Apr-2006; LatestRevisionNote: IPC-7351 Footprint Added.; DatasheetVersion: 18-Apr-2001; PackageVersion: Mar-2001; PackageReference: J67; Publisher: Altium Limited; PackageDescription: 44-Pin Plastic Leaded Chip Carrier 1.27 mm Pitch; ComponentLink1Description: Manufacturer Link; ComponentLink1URL: http://www.cypress.com/; ComponentLink2Description: Datasheet; ComponentLink2URL: http://www.cypress.com/portal/server.pt/gateway/PTARGS_0_2_1524_209_259_43/http%3B/sjapp20.mis.cypress.com%3B7001/publishedcontent/publish/design_resources/datasheets/contents/cy37032p_5.pdf
footprint J67_N (Leaded Chip Carrier, 44-Leads, Body 16.6x16.6mm, Pitch 1.27mm, IPC Medium Density)
footprint J67_L (Leaded Chip Carrier, 44-Leads, Body 16.6x16.6mm, Pitch 1.27mm, IPC High Density)
footprint J67_M (Leaded Chip Carrier, 44-Leads, Body 16.6x16.6mm, Pitch 1.27mm, IPC Low Density)
3D model CY37064P44-J67 (44-Pin Plastic Leaded Chip Carrier 1.27 mm Pitch)
pins: 1 GND (power), 2 I/O0 (io), 3 I/O1 (io), 4 I/O2 (io), 5 I/O3 (io), 6 I/O4 (io), 7 I/O5/TCK (io), 8 I/O6 (io), 9 I/O7 (io), 10 CLK2/IN0 (in), 11 JTAGEN (in), 12 GND (power), 13 CLK0/IN1 (in), 14 I/O8 (io), 15 I/O9 (io), 16 I/O10 (io), 17 I/O11 (io), 18 I/O12 (io), 19 I/O13/TMS (io), 20 I/O14 (io), 21 I/O15 (io), 22 VCC (power), 23 GND (power), 24 I/O16 (io), 25 I/O17 (io), 26 I/O18 (io), 27 I/O19/TDO (io), 28 I/O20 (io), 29 I/O21 (io), 30 I/O22 (io), 31 I/O23 (io), 32 CLK3/IN2 (in), 33 IN3 (in), 34 GND (power), 35 CLK1/IN4 (in), 36 I/O24 (io), 37 I/O25 (io), 38 I/O26 (io), 39 I/O27/TDI (io), 40 I/O28 (io), 41 I/O29 (io), 42 I/O30 (io), 43 I/O31 (io), 44 VCCO (power)

## CY37064P84-125JC
designator U?
Ultra37000 5V, ISR High-Performance CPLD; Published: 11-Dec-2002; LatestRevisionDate: 13-Apr-2006; LatestRevisionNote: IPC-7351 Footprint Added.; DatasheetVersion: 18-Apr-2001; PackageVersion: Mar-2001; PackageReference: J83; Publisher: Altium Limited; PackageDescription: 84-Pin Plastic Leaded Chip Carrier 1.27 mm Pitch; Code_IPC: PLCC-84; ComponentLink1Description: Manufacturer Link; ComponentLink1URL: http://www.cypress.com/; ComponentLink2Description: Datasheet; ComponentLink2URL: http://www.cypress.com/portal/server.pt/gateway/PTARGS_0_2_1524_209_259_43/http%3B/sjapp20.mis.cypress.com%3B7001/publishedcontent/publish/design_resources/datasheets/contents/cy37032p_5.pdf
footprint J83_N (Leaded Chip Carrier, 84-Leads, Body 29.3x29.3mm, Pitch 1.27mm, IPC Medium Density)
footprint J83_L (Leaded Chip Carrier, 84-Leads, Body 29.3x29.3mm, Pitch 1.27mm, IPC High Density)
footprint J83_M (Leaded Chip Carrier, 84-Leads, Body 29.3x29.3mm, Pitch 1.27mm, IPC Low Density)
3D model CY37064P84-J83 (84-Pin Plastic Leaded Chip Carrier 1.27 mm Pitch)
pins: 1 GND (power), 2 VCCO (power), 3 I/O0 (io), 4 I/O1 (io), 5 I/O2 (io), 6 I/O3 (io), 7 I/O4 (io), 8 I/O5 (io), 9 I/O6 (io), 10 I/O7 (io), 11 GND (power), 12 I/O8 (io), 13 I/O9 (io), 14 I/O10/TCK (io), 15 I/O11 (io), 16 I/O12 (io), 17 I/O13 (io), 18 I/O14 (io), 19 I/O15 (io), 20 CLK0/IN0 (in), 21 VCCO (power), 22 GND (power), 23 CLK1/IN1 (in), 24 I/O16 (io), 25 I/O17 (io), 26 I/O18 (io), 27 I/O19 (io), 28 I/O20 (io), 29 I/O21 (io), 30 I/O22 (io), 31 I/O23 (io), 32 GND (power), 33 I/O24 (io), 34 I/O25 (io), 35 I/O26/TMS (io), 36 I/O27 (io), 37 I/O28 (io), 38 I/O29 (io), 39 I/O30 (io), 40 I/O31 (io), 41 IN2 (in), 42 VCCO (power), 43 GND (power), 44 VCC (power), 45 I/O32 (io), 46 I/O33 (io), 47 I/O34 (io), 48 I/O35 (io), 49 I/O36 (io), 50 I/O37 (io), 51 I/O38/TDO (io), 52 I/O39 (io), 53 GND (power), 54 I/O40 (io), 55 I/O41 (io), 56 I/O42 (io), 57 I/O43 (io), 58 I/O44 (io), 59 I/O45 (io), 60 I/O46 (io), 61 I/O47 (io), 62 CLK2/IN3 (in), 63 VCCO (power), 64 GND (power), 65 CLK3/IN4 (in), 66 I/O48 (io), 67 I/O49 (io), 68 I/O50 (io), 69 I/O51 (io), 70 I/O52 (io), 71 I/O53 (io), 72 I/O54/TDI (io), 73 I/O55 (io), 74 GND (power), 75 I/O56 (io), 76 I/O57 (io), 77 I/O58 (io), 78 I/O59 (io), 79 I/O60 (io), 80 I/O61 (io), 81 I/O62 (io), 82 I/O63 (io), 83 JTAGEN (in), 84 VCC (power)

## CY37064P84-125JI
designator U?
Ultra37000 5V, ISR High-Performance CPLD; Published: 11-Dec-2002; LatestRevisionDate: 13-Apr-2006; LatestRevisionNote: IPC-7351 Footprint Added.; DatasheetVersion: 18-Apr-2001; PackageVersion: Mar-2001; PackageReference: J83; Publisher: Altium Limited; PackageDescription: 84-Pin Plastic Leaded Chip Carrier 1.27 mm Pitch; Code_IPC: PLCC-84; ComponentLink1Description: Manufacturer Link; ComponentLink1URL: http://www.cypress.com/; ComponentLink2Description: Datasheet; ComponentLink2URL: http://www.cypress.com/portal/server.pt/gateway/PTARGS_0_2_1524_209_259_43/http%3B/sjapp20.mis.cypress.com%3B7001/publishedcontent/publish/design_resources/datasheets/contents/cy37032p_5.pdf
footprint J83_N (Leaded Chip Carrier, 84-Leads, Body 29.3x29.3mm, Pitch 1.27mm, IPC Medium Density)
footprint J83_L (Leaded Chip Carrier, 84-Leads, Body 29.3x29.3mm, Pitch 1.27mm, IPC High Density)
footprint J83_M (Leaded Chip Carrier, 84-Leads, Body 29.3x29.3mm, Pitch 1.27mm, IPC Low Density)
3D model CY37064P84-J83 (84-Pin Plastic Leaded Chip Carrier 1.27 mm Pitch)
pins: 1 GND (power), 2 VCCO (power), 3 I/O0 (io), 4 I/O1 (io), 5 I/O2 (io), 6 I/O3 (io), 7 I/O4 (io), 8 I/O5 (io), 9 I/O6 (io), 10 I/O7 (io), 11 GND (power), 12 I/O8 (io), 13 I/O9 (io), 14 I/O10/TCK (io), 15 I/O11 (io), 16 I/O12 (io), 17 I/O13 (io), 18 I/O14 (io), 19 I/O15 (io), 20 CLK0/IN0 (in), 21 VCCO (power), 22 GND (power), 23 CLK1/IN1 (in), 24 I/O16 (io), 25 I/O17 (io), 26 I/O18 (io), 27 I/O19 (io), 28 I/O20 (io), 29 I/O21 (io), 30 I/O22 (io), 31 I/O23 (io), 32 GND (power), 33 I/O24 (io), 34 I/O25 (io), 35 I/O26/TMS (io), 36 I/O27 (io), 37 I/O28 (io), 38 I/O29 (io), 39 I/O30 (io), 40 I/O31 (io), 41 IN2 (in), 42 VCCO (power), 43 GND (power), 44 VCC (power), 45 I/O32 (io), 46 I/O33 (io), 47 I/O34 (io), 48 I/O35 (io), 49 I/O36 (io), 50 I/O37 (io), 51 I/O38/TDO (io), 52 I/O39 (io), 53 GND (power), 54 I/O40 (io), 55 I/O41 (io), 56 I/O42 (io), 57 I/O43 (io), 58 I/O44 (io), 59 I/O45 (io), 60 I/O46 (io), 61 I/O47 (io), 62 CLK2/IN3 (in), 63 VCCO (power), 64 GND (power), 65 CLK3/IN4 (in), 66 I/O48 (io), 67 I/O49 (io), 68 I/O50 (io), 69 I/O51 (io), 70 I/O52 (io), 71 I/O53 (io), 72 I/O54/TDI (io), 73 I/O55 (io), 74 GND (power), 75 I/O56 (io), 76 I/O57 (io), 77 I/O58 (io), 78 I/O59 (io), 79 I/O60 (io), 80 I/O61 (io), 81 I/O62 (io), 82 I/O63 (io), 83 JTAGEN (in), 84 VCC (power)

## CY37064P84-154JC
designator U?
Ultra37000 5V, ISR High-Performance CPLD; Published: 11-Dec-2002; LatestRevisionDate: 13-Apr-2006; LatestRevisionNote: IPC-7351 Footprint Added.; DatasheetVersion: 18-Apr-2001; PackageVersion: Mar-2001; PackageReference: J83; Publisher: Altium Limited; PackageDescription: 84-Pin Plastic Leaded Chip Carrier 1.27 mm Pitch; Code_IPC: PLCC-84; ComponentLink1Description: Manufacturer Link; ComponentLink1URL: http://www.cypress.com/; ComponentLink2Description: Datasheet; ComponentLink2URL: http://www.cypress.com/portal/server.pt/gateway/PTARGS_0_2_1524_209_259_43/http%3B/sjapp20.mis.cypress.com%3B7001/publishedcontent/publish/design_resources/datasheets/contents/cy37032p_5.pdf
footprint J83_N (Leaded Chip Carrier, 84-Leads, Body 29.3x29.3mm, Pitch 1.27mm, IPC Medium Density)
footprint J83_L (Leaded Chip Carrier, 84-Leads, Body 29.3x29.3mm, Pitch 1.27mm, IPC High Density)
footprint J83_M (Leaded Chip Carrier, 84-Leads, Body 29.3x29.3mm, Pitch 1.27mm, IPC Low Density)
3D model CY37064P84-J83 (84-Pin Plastic Leaded Chip Carrier 1.27 mm Pitch)
pins: 1 GND (power), 2 VCCO (power), 3 I/O0 (io), 4 I/O1 (io), 5 I/O2 (io), 6 I/O3 (io), 7 I/O4 (io), 8 I/O5 (io), 9 I/O6 (io), 10 I/O7 (io), 11 GND (power), 12 I/O8 (io), 13 I/O9 (io), 14 I/O10/TCK (io), 15 I/O11 (io), 16 I/O12 (io), 17 I/O13 (io), 18 I/O14 (io), 19 I/O15 (io), 20 CLK0/IN0 (in), 21 VCCO (power), 22 GND (power), 23 CLK1/IN1 (in), 24 I/O16 (io), 25 I/O17 (io), 26 I/O18 (io), 27 I/O19 (io), 28 I/O20 (io), 29 I/O21 (io), 30 I/O22 (io), 31 I/O23 (io), 32 GND (power), 33 I/O24 (io), 34 I/O25 (io), 35 I/O26/TMS (io), 36 I/O27 (io), 37 I/O28 (io), 38 I/O29 (io), 39 I/O30 (io), 40 I/O31 (io), 41 IN2 (in), 42 VCCO (power), 43 GND (power), 44 VCC (power), 45 I/O32 (io), 46 I/O33 (io), 47 I/O34 (io), 48 I/O35 (io), 49 I/O36 (io), 50 I/O37 (io), 51 I/O38/TDO (io), 52 I/O39 (io), 53 GND (power), 54 I/O40 (io), 55 I/O41 (io), 56 I/O42 (io), 57 I/O43 (io), 58 I/O44 (io), 59 I/O45 (io), 60 I/O46 (io), 61 I/O47 (io), 62 CLK2/IN3 (in), 63 VCCO (power), 64 GND (power), 65 CLK3/IN4 (in), 66 I/O48 (io), 67 I/O49 (io), 68 I/O50 (io), 69 I/O51 (io), 70 I/O52 (io), 71 I/O53 (io), 72 I/O54/TDI (io), 73 I/O55 (io), 74 GND (power), 75 I/O56 (io), 76 I/O57 (io), 77 I/O58 (io), 78 I/O59 (io), 79 I/O60 (io), 80 I/O61 (io), 81 I/O62 (io), 82 I/O63 (io), 83 JTAGEN (in), 84 VCC (power)

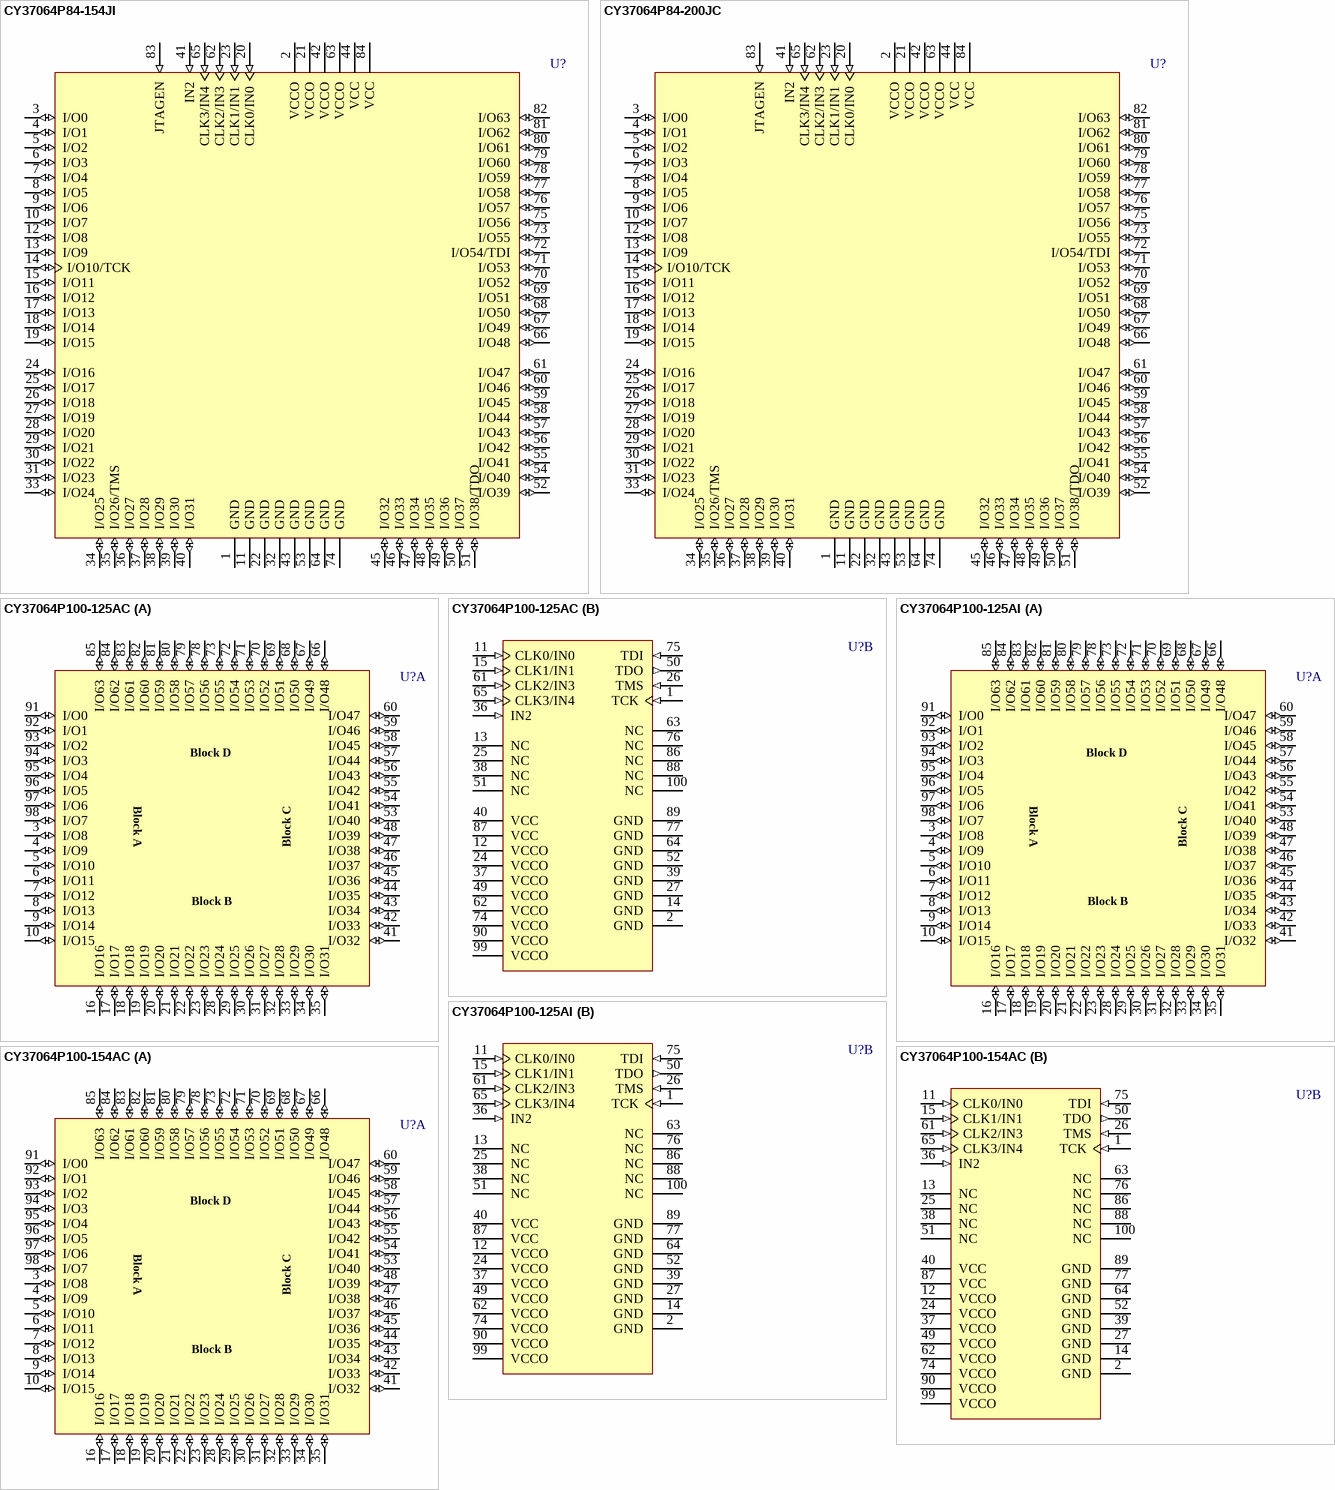
[diagram p9: symbols CY37064P84-154JI to CY37064P100-154AC]

## CY37064P84-154JI
designator U?
Ultra37000 5V, ISR High-Performance CPLD; Published: 11-Dec-2002; LatestRevisionDate: 13-Apr-2006; LatestRevisionNote: IPC-7351 Footprint Added.; DatasheetVersion: 18-Apr-2001; PackageVersion: Mar-2001; PackageReference: J83; Publisher: Altium Limited; PackageDescription: 84-Pin Plastic Leaded Chip Carrier 1.27 mm Pitch; Code_IPC: PLCC-84; ComponentLink1Description: Manufacturer Link; ComponentLink1URL: http://www.cypress.com/; ComponentLink2Description: Datasheet; ComponentLink2URL: http://www.cypress.com/portal/server.pt/gateway/PTARGS_0_2_1524_209_259_43/http%3B/sjapp20.mis.cypress.com%3B7001/publishedcontent/publish/design_resources/datasheets/contents/cy37032p_5.pdf
footprint J83_N (Leaded Chip Carrier, 84-Leads, Body 29.3x29.3mm, Pitch 1.27mm, IPC Medium Density)
footprint J83_L (Leaded Chip Carrier, 84-Leads, Body 29.3x29.3mm, Pitch 1.27mm, IPC High Density)
footprint J83_M (Leaded Chip Carrier, 84-Leads, Body 29.3x29.3mm, Pitch 1.27mm, IPC Low Density)
3D model CY37064P84-J83 (84-Pin Plastic Leaded Chip Carrier 1.27 mm Pitch)
pins: 1 GND (power), 2 VCCO (power), 3 I/O0 (io), 4 I/O1 (io), 5 I/O2 (io), 6 I/O3 (io), 7 I/O4 (io), 8 I/O5 (io), 9 I/O6 (io), 10 I/O7 (io), 11 GND (power), 12 I/O8 (io), 13 I/O9 (io), 14 I/O10/TCK (io), 15 I/O11 (io), 16 I/O12 (io), 17 I/O13 (io), 18 I/O14 (io), 19 I/O15 (io), 20 CLK0/IN0 (in), 21 VCCO (power), 22 GND (power), 23 CLK1/IN1 (in), 24 I/O16 (io), 25 I/O17 (io), 26 I/O18 (io), 27 I/O19 (io), 28 I/O20 (io), 29 I/O21 (io), 30 I/O22 (io), 31 I/O23 (io), 32 GND (power), 33 I/O24 (io), 34 I/O25 (io), 35 I/O26/TMS (io), 36 I/O27 (io), 37 I/O28 (io), 38 I/O29 (io), 39 I/O30 (io), 40 I/O31 (io), 41 IN2 (in), 42 VCCO (power), 43 GND (power), 44 VCC (power), 45 I/O32 (io), 46 I/O33 (io), 47 I/O34 (io), 48 I/O35 (io), 49 I/O36 (io), 50 I/O37 (io), 51 I/O38/TDO (io), 52 I/O39 (io), 53 GND (power), 54 I/O40 (io), 55 I/O41 (io), 56 I/O42 (io), 57 I/O43 (io), 58 I/O44 (io), 59 I/O45 (io), 60 I/O46 (io), 61 I/O47 (io), 62 CLK2/IN3 (in), 63 VCCO (power), 64 GND (power), 65 CLK3/IN4 (in), 66 I/O48 (io), 67 I/O49 (io), 68 I/O50 (io), 69 I/O51 (io), 70 I/O52 (io), 71 I/O53 (io), 72 I/O54/TDI (io), 73 I/O55 (io), 74 GND (power), 75 I/O56 (io), 76 I/O57 (io), 77 I/O58 (io), 78 I/O59 (io), 79 I/O60 (io), 80 I/O61 (io), 81 I/O62 (io), 82 I/O63 (io), 83 JTAGEN (in), 84 VCC (power)

## CY37064P84-200JC
designator U?
Ultra37000 5V, ISR High-Performance CPLD; Published: 11-Dec-2002; LatestRevisionDate: 13-Apr-2006; LatestRevisionNote: IPC-7351 Footprint Added.; DatasheetVersion: 18-Apr-2001; PackageVersion: Mar-2001; PackageReference: J83; Publisher: Altium Limited; PackageDescription: 84-Pin Plastic Leaded Chip Carrier 1.27 mm Pitch; Code_IPC: PLCC-84; ComponentLink1Description: Manufacturer Link; ComponentLink1URL: http://www.cypress.com/; ComponentLink2Description: Datasheet; ComponentLink2URL: http://www.cypress.com/portal/server.pt/gateway/PTARGS_0_2_1524_209_259_43/http%3B/sjapp20.mis.cypress.com%3B7001/publishedcontent/publish/design_resources/datasheets/contents/cy37032p_5.pdf
footprint J83_N (Leaded Chip Carrier, 84-Leads, Body 29.3x29.3mm, Pitch 1.27mm, IPC Medium Density)
footprint J83_L (Leaded Chip Carrier, 84-Leads, Body 29.3x29.3mm, Pitch 1.27mm, IPC High Density)
footprint J83_M (Leaded Chip Carrier, 84-Leads, Body 29.3x29.3mm, Pitch 1.27mm, IPC Low Density)
3D model CY37064P84-J83 (84-Pin Plastic Leaded Chip Carrier 1.27 mm Pitch)
pins: 1 GND (power), 2 VCCO (power), 3 I/O0 (io), 4 I/O1 (io), 5 I/O2 (io), 6 I/O3 (io), 7 I/O4 (io), 8 I/O5 (io), 9 I/O6 (io), 10 I/O7 (io), 11 GND (power), 12 I/O8 (io), 13 I/O9 (io), 14 I/O10/TCK (io), 15 I/O11 (io), 16 I/O12 (io), 17 I/O13 (io), 18 I/O14 (io), 19 I/O15 (io), 20 CLK0/IN0 (in), 21 VCCO (power), 22 GND (power), 23 CLK1/IN1 (in), 24 I/O16 (io), 25 I/O17 (io), 26 I/O18 (io), 27 I/O19 (io), 28 I/O20 (io), 29 I/O21 (io), 30 I/O22 (io), 31 I/O23 (io), 32 GND (power), 33 I/O24 (io), 34 I/O25 (io), 35 I/O26/TMS (io), 36 I/O27 (io), 37 I/O28 (io), 38 I/O29 (io), 39 I/O30 (io), 40 I/O31 (io), 41 IN2 (in), 42 VCCO (power), 43 GND (power), 44 VCC (power), 45 I/O32 (io), 46 I/O33 (io), 47 I/O34 (io), 48 I/O35 (io), 49 I/O36 (io), 50 I/O37 (io), 51 I/O38/TDO (io), 52 I/O39 (io), 53 GND (power), 54 I/O40 (io), 55 I/O41 (io), 56 I/O42 (io), 57 I/O43 (io), 58 I/O44 (io), 59 I/O45 (io), 60 I/O46 (io), 61 I/O47 (io), 62 CLK2/IN3 (in), 63 VCCO (power), 64 GND (power), 65 CLK3/IN4 (in), 66 I/O48 (io), 67 I/O49 (io), 68 I/O50 (io), 69 I/O51 (io), 70 I/O52 (io), 71 I/O53 (io), 72 I/O54/TDI (io), 73 I/O55 (io), 74 GND (power), 75 I/O56 (io), 76 I/O57 (io), 77 I/O58 (io), 78 I/O59 (io), 79 I/O60 (io), 80 I/O61 (io), 81 I/O62 (io), 82 I/O63 (io), 83 JTAGEN (in), 84 VCC (power)

## CY37064P100-125AC
designator U?
Ultra37000 5V, ISR High-Performance CPLD; Published: 11-Dec-2002; LatestRevisionDate: 13-Apr-2006; LatestRevisionNote: IPC-7351 Footprint Added.; DatasheetVersion: 18-Apr-2001; PackageVersion: Mar-2001; PackageReference: A100; Publisher: Altium Limited; PackageDescription: 100-Pin Thin Quad Flat Pack 0.5 mm Pitch; ComponentLink1Description: Manufacturer Link; ComponentLink1URL: http://www.cypress.com/; ComponentLink2Description: Datasheet; ComponentLink2URL: http://www.cypress.com/portal/server.pt/gateway/PTARGS_0_2_1524_209_259_43/http%3B/sjapp20.mis.cypress.com%3B7001/publishedcontent/publish/design_resources/datasheets/contents/cy37032p_5.pdf
footprint A100_N (Thin QFP, 100-Leads, Body 14x14mm, Pitch 0.5mm, IPC Medium Density)
footprint A100_L (Thin QFP, 100-Leads, Body 14x14mm, Pitch 0.5mm, IPC High Density)
footprint A100_M (Thin QFP, 100-Leads, Body 14x14mm, Pitch 0.5mm, IPC Low Density)
3D model CY37064P100-A100 (100-Pin Thin Quad Flat Pack 0.5 mm Pitch)
part A pins: 3 I/O8 (io), 4 I/O9 (io), 5 I/O10 (io), 6 I/O11 (io), 7 I/O12 (io), 8 I/O13 (io), 9 I/O14 (io), 10 I/O15 (io), 16 I/O16 (io), 17 I/O17 (io), 18 I/O18 (io), 19 I/O19 (io), 20 I/O20 (io), 21 I/O21 (io), 22 I/O22 (io), 23 I/O23 (io), 28 I/O24 (io), 29 I/O25 (io), 30 I/O26 (io), 31 I/O27 (io), 32 I/O28 (io), 33 I/O29 (io), 34 I/O30 (io), 35 I/O31 (io), 41 I/O32 (io), 42 I/O33 (io), 43 I/O34 (io), 44 I/O35 (io), 45 I/O36 (io), 46 I/O37 (io), 47 I/O38 (io), 48 I/O39 (io), 53 I/O40 (io), 54 I/O41 (io), 55 I/O42 (io), 56 I/O43 (io), 57 I/O44 (io), 58 I/O45 (io), 59 I/O46 (io), 60 I/O47 (io), 66 I/O48 (io), 67 I/O49 (io), 68 I/O50 (io), 69 I/O51 (io), 70 I/O52 (io), 71 I/O53 (io), 72 I/O54 (io), 73 I/O55 (io), 78 I/O56 (io), 79 I/O57 (io), 80 I/O58 (io), 81 I/O59 (io), 82 I/O60 (io), 83 I/O61 (io), 84 I/O62 (io), 85 I/O63 (io), 91 I/O0 (io), 92 I/O1 (io), 93 I/O2 (io), 94 I/O3 (io), 95 I/O4 (io), 96 I/O5 (io), 97 I/O6 (io), 98 I/O7 (io)
part B pins: 1 TCK (in), 2 GND (power), 11 CLK0/IN0 (in), 12 VCCO (power), 13 NC, 14 GND (power), 15 CLK1/IN1 (in), 24 VCCO (power), 25 NC, 26 TMS (in), 27 GND (power), 36 IN2 (in), 37 VCCO (power), 38 NC, 39 GND (power), 40 VCC (power), 49 VCCO (power), 50 TDO (out), 51 NC, 52 GND (power), 61 CLK2/IN3 (in), 62 VCCO (power), 63 NC, 64 GND (power), 65 CLK3/IN4 (in), 74 VCCO (power), 75 TDI (in), 76 NC, 77 GND (power), 86 NC, 87 VCC (power), 88 NC, 89 GND (power), 90 VCCO (power), 99 VCCO (power), 100 NC
part A text: Block D; Block A; Block C; Block B

## CY37064P100-125AI
designator U?
Ultra37000 5V, ISR High-Performance CPLD; Published: 11-Dec-2002; LatestRevisionDate: 13-Apr-2006; LatestRevisionNote: IPC-7351 Footprint Added.; DatasheetVersion: 18-Apr-2001; PackageVersion: Mar-2001; PackageReference: A100; Publisher: Altium Limited; PackageDescription: 100-Pin Thin Quad Flat Pack 0.5 mm Pitch; ComponentLink1Description: Manufacturer Link; ComponentLink1URL: http://www.cypress.com/; ComponentLink2Description: Datasheet; ComponentLink2URL: http://www.cypress.com/portal/server.pt/gateway/PTARGS_0_2_1524_209_259_43/http%3B/sjapp20.mis.cypress.com%3B7001/publishedcontent/publish/design_resources/datasheets/contents/cy37032p_5.pdf
footprint A100_N (Thin QFP, 100-Leads, Body 14x14mm, Pitch 0.5mm, IPC Medium Density)
footprint A100_L (Thin QFP, 100-Leads, Body 14x14mm, Pitch 0.5mm, IPC High Density)
footprint A100_M (Thin QFP, 100-Leads, Body 14x14mm, Pitch 0.5mm, IPC Low Density)
3D model CY37064P100-A100 (100-Pin Thin Quad Flat Pack 0.5 mm Pitch)
part A pins: 3 I/O8 (io), 4 I/O9 (io), 5 I/O10 (io), 6 I/O11 (io), 7 I/O12 (io), 8 I/O13 (io), 9 I/O14 (io), 10 I/O15 (io), 16 I/O16 (io), 17 I/O17 (io), 18 I/O18 (io), 19 I/O19 (io), 20 I/O20 (io), 21 I/O21 (io), 22 I/O22 (io), 23 I/O23 (io), 28 I/O24 (io), 29 I/O25 (io), 30 I/O26 (io), 31 I/O27 (io), 32 I/O28 (io), 33 I/O29 (io), 34 I/O30 (io), 35 I/O31 (io), 41 I/O32 (io), 42 I/O33 (io), 43 I/O34 (io), 44 I/O35 (io), 45 I/O36 (io), 46 I/O37 (io), 47 I/O38 (io), 48 I/O39 (io), 53 I/O40 (io), 54 I/O41 (io), 55 I/O42 (io), 56 I/O43 (io), 57 I/O44 (io), 58 I/O45 (io), 59 I/O46 (io), 60 I/O47 (io), 66 I/O48 (io), 67 I/O49 (io), 68 I/O50 (io), 69 I/O51 (io), 70 I/O52 (io), 71 I/O53 (io), 72 I/O54 (io), 73 I/O55 (io), 78 I/O56 (io), 79 I/O57 (io), 80 I/O58 (io), 81 I/O59 (io), 82 I/O60 (io), 83 I/O61 (io), 84 I/O62 (io), 85 I/O63 (io), 91 I/O0 (io), 92 I/O1 (io), 93 I/O2 (io), 94 I/O3 (io), 95 I/O4 (io), 96 I/O5 (io), 97 I/O6 (io), 98 I/O7 (io)
part B pins: 1 TCK (in), 2 GND (power), 11 CLK0/IN0 (in), 12 VCCO (power), 13 NC, 14 GND (power), 15 CLK1/IN1 (in), 24 VCCO (power), 25 NC, 26 TMS (in), 27 GND (power), 36 IN2 (in), 37 VCCO (power), 38 NC, 39 GND (power), 40 VCC (power), 49 VCCO (power), 50 TDO (out), 51 NC, 52 GND (power), 61 CLK2/IN3 (in), 62 VCCO (power), 63 NC, 64 GND (power), 65 CLK3/IN4 (in), 74 VCCO (power), 75 TDI (in), 76 NC, 77 GND (power), 86 NC, 87 VCC (power), 88 NC, 89 GND (power), 90 VCCO (power), 99 VCCO (power), 100 NC
part A text: Block D; Block A; Block C; Block B